# EAGLE library part RN4-0603 (library Zoli2_2015-02-22)
Array Chip Resistor Source: RS Component / Phycomp
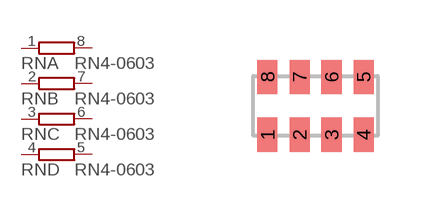
[diagram p43: symbol with the pads of RN4-0603; footprint RN4-0603]

Designator prefix RN; gates A=R1NV B=R1NV C=R1NV D=R1NV

## RN4-06030603-ARC  [RN4-0603]
1  A:1  pas
2  B:1  pas
3  C:1  pas
4  D:1  pas
5  D:2  pas
6  C:2  pas
7  B:2  pas
8  A:2  pas

## Footprint RN4-0603 (pad centres in mm)
Chip Resistor Array size 4 × 0603 concave termination - Phycomp Components Source: RS Components
smd 0.5 x 0.85: 1 -1.2,-0.725; 2 -0.4,-0.725; 3 0.4,-0.725; 4 1.2,-0.725; 5 1.2,0.725; 6 0.4,0.725; 7 -0.4,0.725; 8 -1.2,0.725